# EAGLE library part SN74LVC1G3157 (library Switch_P4)
Single-Pole Double-Throw Analog Switch
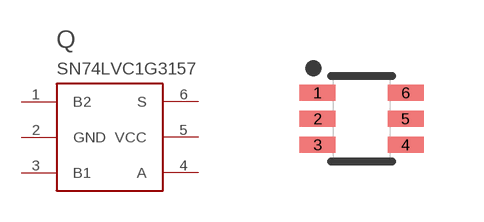
[diagram p0: symbol with the pads of SC-70-6; footprint SC-70-6]

Designator prefix Q

## SN74LVC1G3157DCK  [SC-70-6]
1  B2  pas
2  GND  pwr
3  B1  pas
4  A  pas
5  VCC  pwr
6  S  in

## Footprint SC-70-6 (pad centres in mm)
SC-70-6 6-pin Plastic Small outline
smd 0.9 x 0.4: 1 -1.1,0.65; 2 -1.1,0; 3 -1.1,-0.65; 4 1.1,-0.65; 5 1.1,0; 6 1.1,0.65